# Altium footprint library PCB - AUDIO - DIODES INC U-QFN3030-16.PcbLib: 1 footprints
Each footprint in its own frame and in the unit in brackets; x right, y up, seen from the top. Pads: shape width x height; smd on the part's side, far side on the other; paste and mask are expansions set on the pad; w line width, h text height; cw(c..) or ccw(c..) is an arc to the next point about the centre after c.
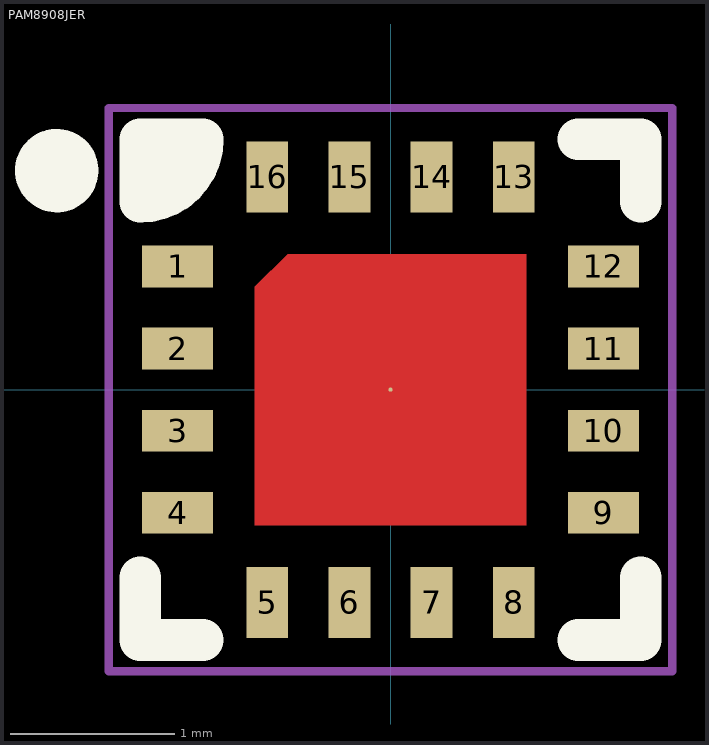
[diagram p0: the footprint, top view; thin cyan lines are the x and y axes]

## PAM8908JER [mil]
height 25.59
pads (17):
  rect 17x10 smd: 1(-51,29.53) 2(-51,9.84) 3(-51,-9.84) 4(-51,-29.53) 9(51,-29.53) 10(51,-9.84) 11(51,9.84) 12(51,29.53)
  rect 10x17 smd: 5(-29.53,-51) 6(-9.84,-51) 7(9.84,-51) 8(29.53,-51) 13(29.53,51) 14(9.84,51) 15(-9.84,51) 16(-29.53,51)
  round 1 / inner round 0 / far side round 0 all layers, no hole: 10(0,0)
Top Layer:
  region: 32.48,-32.48 -32.48,-32.48 -32.48,24.69 -24.69,32.48 32.48,32.48
Top Overlay:
  circle w10: c-80,52.5 r5
  lines w10: -60,-45 -60,-60 -45,-60 ; -60,52.5 ccw(c-60,60) -52.5,60 ; 45,-60 60,-60 60,-45 ; 45,60 60,60 60,45 ; -60,45 ccw(c-60,60) -45,60 -60,60 -60,45
Top Courtyard (Mech15):
  lines w2: -67.5,-67.5 67.5,-67.5 67.5,67.5 -67.5,67.5 -67.5,-67.5
3D body "PAM8908JER v1.step": height 25.59, standoff 0, extent -59.06,-59.06 59.06,59.06